# Altium footprint library XKB.PcbLib: 1 footprints
Each footprint in its own frame and in the unit in brackets; x right, y up, seen from the top. Pads: shape width x height; smd on the part's side, far side on the other; paste and mask are expansions set on the pad; w line width, h text height; cw(c..) or ccw(c..) is an arc to the next point about the centre after c.
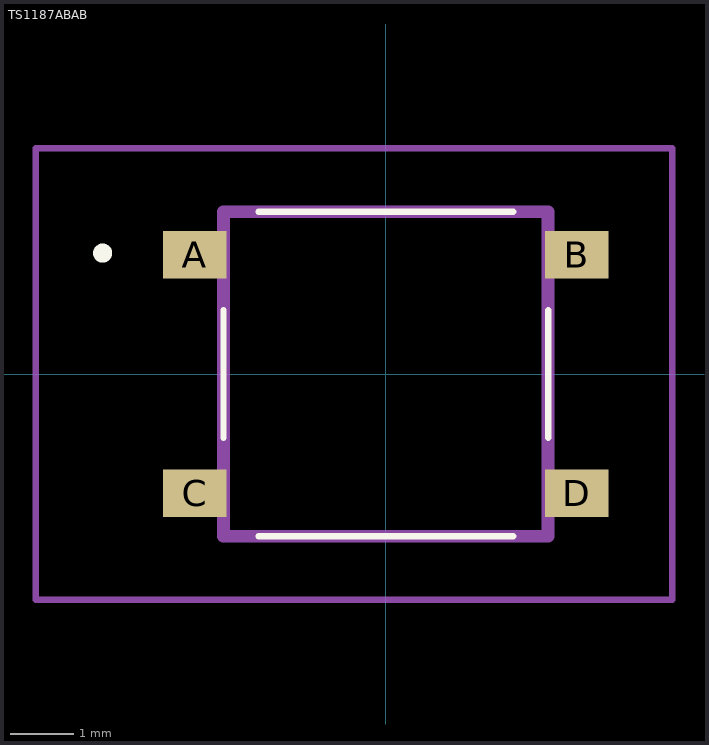
[diagram p0: the footprint, top view; thin cyan lines are the x and y axes]

## TS1187ABAB [mm]
pads (4):
  rect 1x0.75 smd: A(-3,1.875) B(3,1.875) C(-3,-1.875) D(3,-1.875)
Top Overlay:
  lines w0.1: -2.55,-1 -2.55,1 ; -2,-2.55 2,-2.55 ; -2,2.55 2,2.55 ; 2.55,-1 2.55,1
  lines w0.2: -4.5,1.9 ccw(c-4.45,1.9) -4.4,1.9 ; -4.5,1.9 cw(c-4.45,1.9) -4.4,1.9 ; -4.5,1.9 ccw(c-4.45,1.9) -4.4,1.9
Mechanical 13:
  lines w0.2: -2.55,-2.55 2.55,-2.55 2.55,2.55 -2.55,2.55 -2.55,-2.55
Mechanical 15:
  lines w0.1: -5.5,-3.55 4.5,-3.55 4.5,3.55 -5.5,3.55 -5.5,-3.55
3D body "TS-1187A-B-A-B.stp": height 1.5, standoff 0, extent -3.2,-2.55 3.3,2.55